# EAGLE library part MCP2120 (library Kb parts)
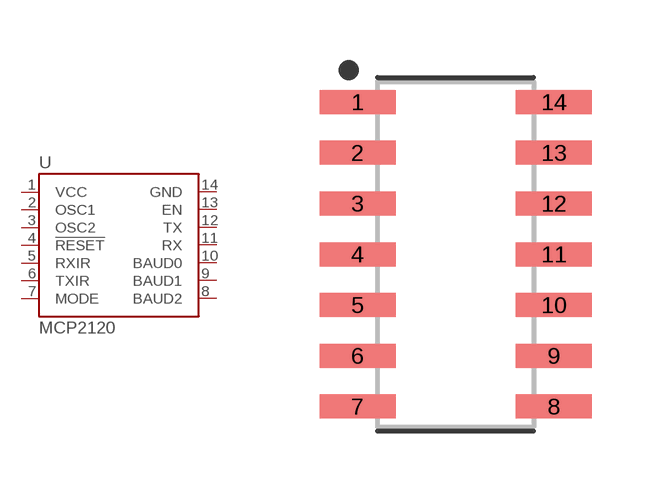
[diagram p1: symbol with the pads of SOIC127P600X175-14N; footprint SOIC127P600X175-14N]

Designator prefix -

## MCP2120SOIC14  [SOIC127P600X175-14N]
1  VCC  pwr
2  OSC1  in
3  OSC2  in
4  !RESET
5  RXIR
6  TXIR
7  MODE
8  BAUD2
9  BAUD1
10  BAUD0
11  RX
12  TX
13  EN
14  GND  pwr

## Footprint SOIC127P600X175-14N (pad centres in mm)
14-SOIC, 1.27 mm pitch, 6.00 mm span, 8.65 X 3.90 X 1.75 mm body 14-pin SOIC package with 1.27 mm pitch, 6.00 mm span with body size 8.65 X 3.90 X 1.75 mm
smd 1.901 x 0.599: 1 -2.455,3.81; 2 -2.455,2.54; 3 -2.455,1.27; 4 -2.455,0; 5 -2.455,-1.27; 6 -2.455,-2.54; 7 -2.455,-3.81; 8 2.455,-3.81; 9 2.455,-2.54; 10 2.455,-1.27; 11 2.455,0; 12 2.455,1.27; 13 2.455,2.54; 14 2.455,3.81